# EAGLE library part ESP32-WROOM-32E_M113EH2800PH3Q (library SamacSys_Parts)
WiFi Modules (802.11) SMD Module ESP32-D0WD-V3, 16 MB SPI flash, PCB antenna Source: Datasheet <https://br.mouser.com/datasheet/2/891/esp32-wroom-32e_esp32-wroom-32ue_datasheet_en-1855879.pdf>
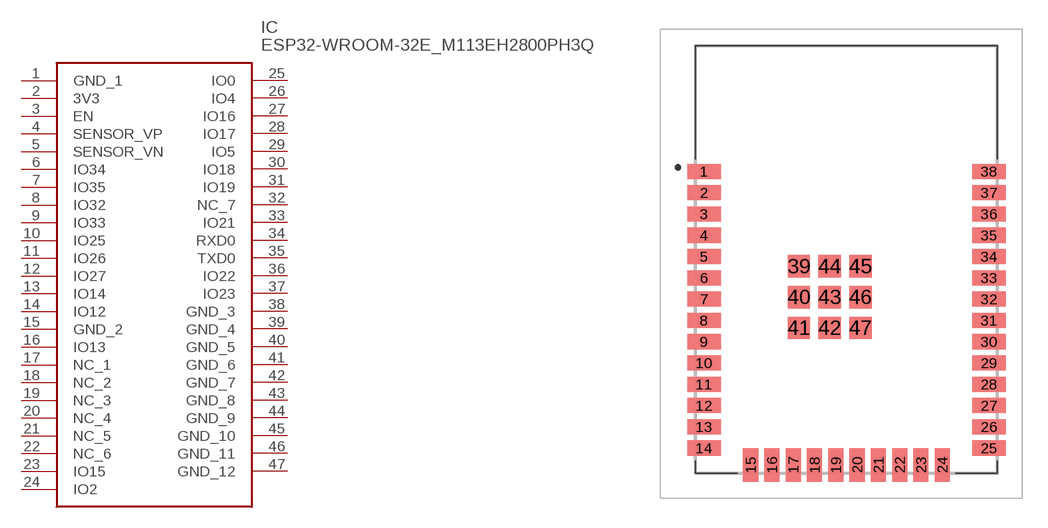
[diagram p5: symbol with the pads of ESP32WROOM32EM113EH2800PH3Q0; footprint ESP32WROOM32EM113EH2800PH3Q0]

Designator prefix IC

## ESP32-WROOM-32E_M113EH2800PH3Q (Description: WiFi Modules (802.11) SMD Module ESP32-D0WD-V3, 16 MB SPI flash, PCB antenna; Height: 3.35mm; Manufacturer_Name: Espressif Systems; Manufacturer_Part_Number: ESP32-WROOM-32E(M113EH2800PH3Q0); Mouser_Part_Number: 356-ESP32WRM32E128PH; Mouser_Price-Stock: https://www.mouser.co.uk/ProductDetail/Espressif-Systems/ESP32-WROOM-32EM113EH2800PH3Q0/?qs=vHuUswq2%252BsxJA4NfkQM4Lw%3D%3D)  [ESP32WROOM32EM113EH2800PH3Q0]
1  GND_1
2  3V3
3  EN
4  SENSOR_VP
5  SENSOR_VN
6  IO34
7  IO35
8  IO32
9  IO33
10  IO25
11  IO26
12  IO27
13  IO14
14  IO12
15  GND_2
16  IO13
17  NC_1
18  NC_2
19  NC_3
20  NC_4
21  NC_5
22  NC_6
23  IO15
24  IO2
25  IO0
26  IO4
27  IO16
28  IO17
29  IO5
30  IO18
31  IO19
32  NC_7
33  IO21
34  RXD0
35  TXD0
36  IO22
37  IO23
38  GND_3
39  GND_4
40  GND_5
41  GND_6
42  GND_7
43  GND_8
44  GND_9
45  GND_10
46  GND_11
47  GND_12

## Footprint ESP32WROOM32EM113EH2800PH3Q0 (pad centres in mm)
ESP32-WROOM-32E(M113EH2800PH3Q0)-2
smd 2 x 0.9: 1 0.5,18.01; 2 0.5,16.74; 3 0.5,15.47; 4 0.5,14.2; 5 0.5,12.93; 6 0.5,11.66; 7 0.5,10.39; 8 0.5,9.12; 9 0.5,7.85; 10 0.5,6.58; 11 0.5,5.31; 12 0.5,4.04; 13 0.5,2.77; 14 0.5,1.5; 25 17.5,1.5; 26 17.5,2.77; 27 17.5,4.04; 28 17.5,5.31; 29 17.5,6.58; 30 17.5,7.85; 31 17.5,9.12; 32 17.5,10.39; 33 17.5,11.66; 34 17.5,12.93; 35 17.5,14.2; 36 17.5,15.47; 37 17.5,16.74; 38 17.5,18.01
smd 0.9 x 2: 15 3.285,0.5; 16 4.555,0.5; 17 5.825,0.5; 18 7.095,0.5; 19 8.365,0.5; 20 9.635,0.5; 21 10.905,0.5; 22 12.175,0.5; 23 13.445,0.5; 24 14.715,0.5
smd 1.33 x 1.33: 39 6.165,12.345; 40 6.165,10.51; 41 6.165,8.675; 42 8,8.675; 43 8,10.51; 44 8,12.345; 45 9.835,12.345; 46 9.835,10.51; 47 9.835,8.675